# Altium footprint library SparkFun-IC-Special-Function.PCBLIB: 35 footprints (part 1 of 3)
Each footprint in its own frame and in the unit in brackets; x right, y up, seen from the top. Pads: shape width x height; smd on the part's side, far side on the other; paste and mask are expansions set on the pad; w line width, h text height; cw(c..) or ccw(c..) is an arc to the next point about the centre after c.
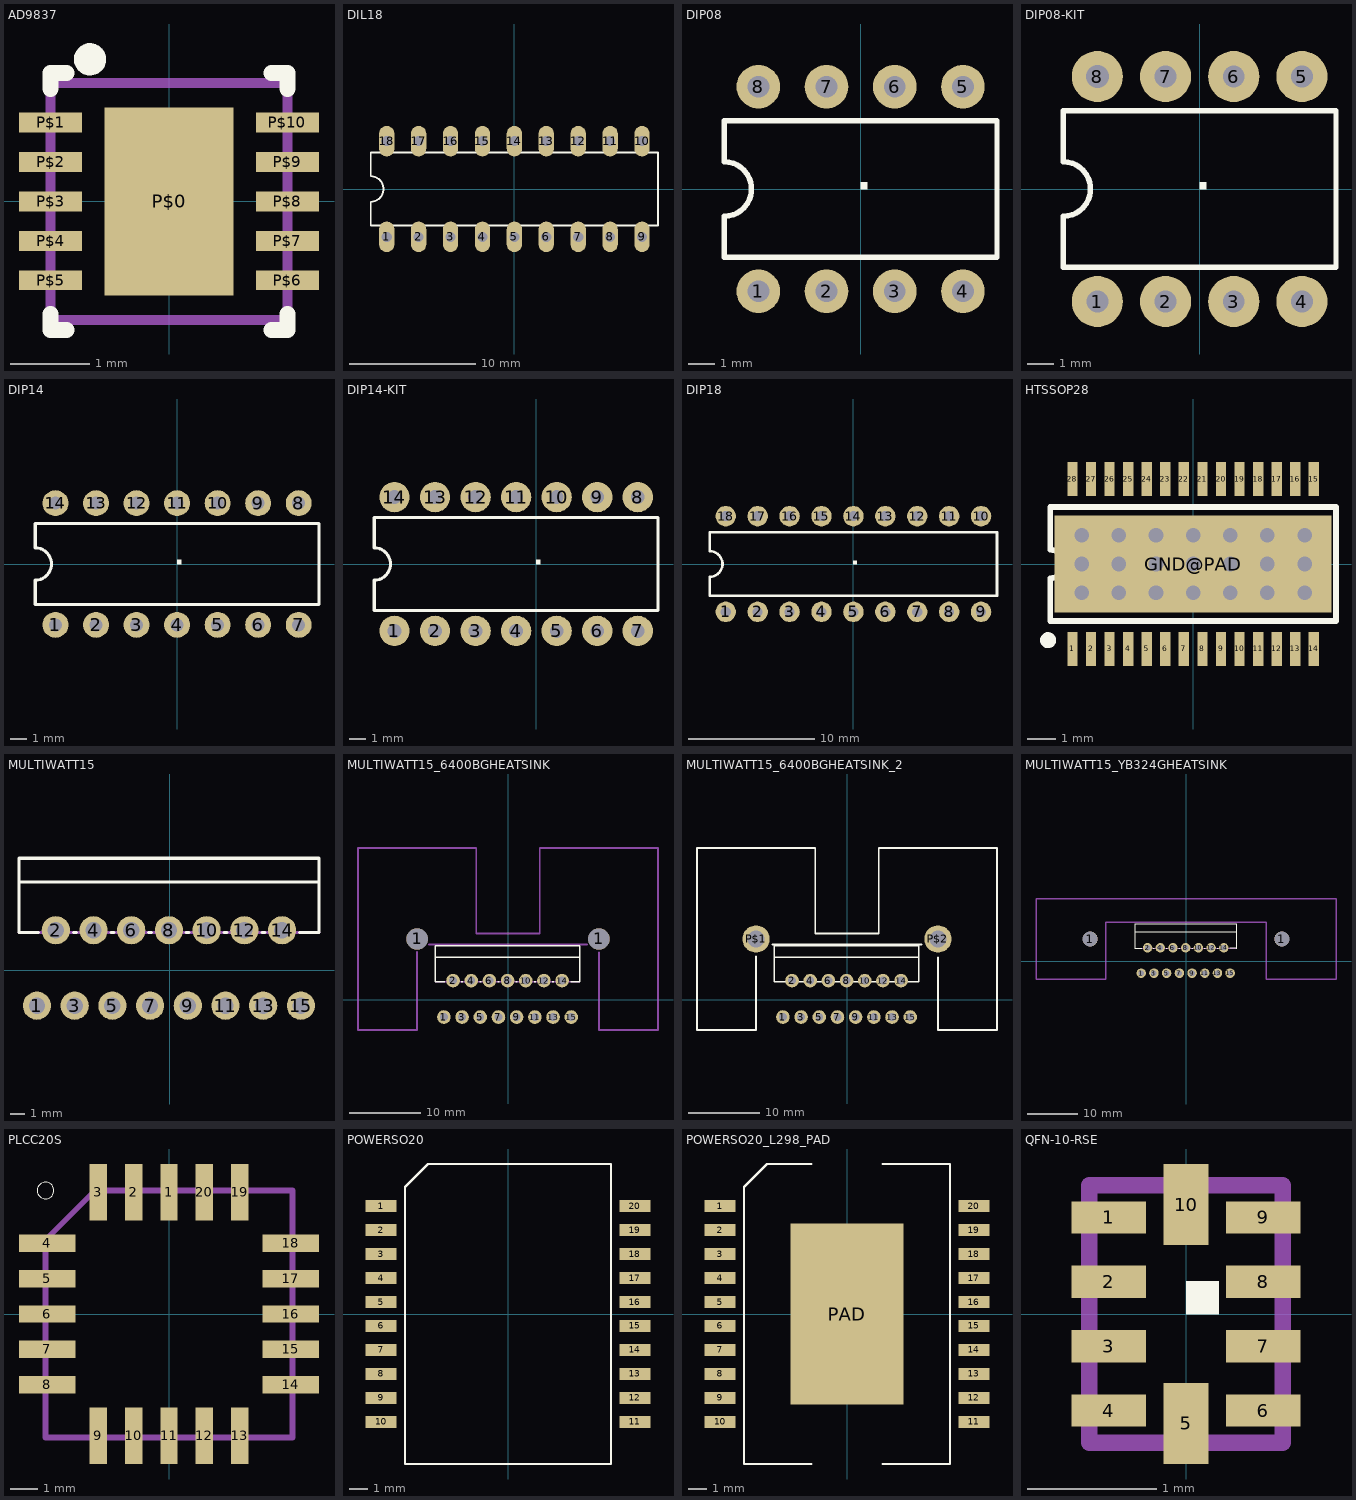
[diagram p0: the footprints below, top view; thin cyan lines are the x and y axes]

## AD9837 [mil]
pads (11):
  rect 64.57x93.7 smd: P$0(0,0)
  rect 31.5x9.84 smd: P$1(-59.06,39.37) P$2(-59.06,19.69) P$3(-59.06,0) P$4(-59.06,-19.69) P$5(-59.06,-39.37) P$6(59.06,-39.37) P$7(59.06,-19.69) P$8(59.06,0) P$9(59.06,19.69) P$10(59.06,39.37)
Top Overlay:
  circle w5: c-39.37,70.87 r5.57
  lines w5: -43.31,70.87 -35.43,70.87 ; -39.37,66.93 -39.37,74.8
  lines w8: -59.06,-56.18 -59.06,-64.06 -51.18,-64.06 ; -59.06,56.18 -59.06,64.06 -51.18,64.06 ; 51.18,-64.06 59.06,-64.06 59.06,-56.18 ; 51.18,64.06 59.06,64.06 59.06,56.18
Top Paste:
  rectangle: -15,-20 15,20
Mechanical 16:
  lines w5: -59.06,-59.06 -59.06,59.06 59.06,59.06 59.06,-59.06 -59.06,-59.06

## DIL18 [mil]
pads (18):
  oval 48x96 hole 32: 1(-400,-150) 2(-300,-150) 3(-200,-150) 4(-100,-150) 5(0,-150) 6(100,-150) 7(200,-150) 8(300,-150) 9(400,-150) 10(400,150) 11(300,150) 12(200,150) 13(100,150) 14(0,150) 15(-100,150) 16(-200,150) 17(-300,150) 18(-400,150)
Top Overlay:
  lines w6: -450,-115 450,-115 450,115 -450,115 -450,40 cw(c-450,0) -450,-40 -450,-115

## DIP08 [mil]
pads (8):
  round 64 hole 32: 1(-150,-150) 2(-50,-150) 3(50,-150) 4(150,-150) 5(150,150) 6(50,150) 7(-50,150) 8(-150,150)
Top Overlay:
  region: 0,0 10,0 10,10 0,10
  lines w8: -200,-100 200,-100 200,100 -200,100 -200,40 cw(c-200,0) -200,-40 -200,-100

## DIP08-KIT [mil]
pads (8):
  round 75 hole 32: 1(-150,-165) 2(-50,-165) 3(50,-165) 4(150,-165) 5(150,165) 6(50,165) 7(-50,165)
  round 75 hole 34: 8(-150,165)
Top Overlay:
  region: 0,0 10,0 10,10 0,10
  lines w8: -200,-115 -200,-40 ccw(c-200,0) -200,40 -200,115 200,115 200,-115 -200,-115
Top Solder:
  circle w0: c-150,165 r17
  circle w0: c-50,165 r17
  circle w0: c50,165 r17
  circle w0: c150,165 r17
  circle w0: c-150,-165 r17
  circle w0: c-50,-165 r17
  circle w0: c50,-165 r17
  circle w0: c150,-165 r17
Bottom Solder:
  circle w0: c-150,165 r42
  circle w0: c-50,165 r42
  circle w0: c50,165 r42
  circle w0: c150,165 r42
  circle w0: c-150,-165 r42
  circle w0: c-50,-165 r42
  circle w0: c50,-165 r42
  circle w0: c150,-165 r42

## DIP14 [mil]
pads (14):
  round 64 hole 32: 1(-300,-150) 2(-200,-150) 3(-100,-150) 4(0,-150) 5(100,-150) 6(200,-150) 7(300,-150) 8(300,150) 9(200,150) 10(100,150) 11(0,150) 12(-100,150) 13(-200,150) 14(-300,150)
Top Overlay:
  region: 0,0 10,0 10,10 0,10
  lines w8: -350,-100 350,-100 350,100 -350,100 -350,40 cw(c-350,0) -350,-40 -350,-100

## DIP14-KIT [mil]
pads (14):
  round 75 hole 34: 1(-350,-165) 2(-250,-165) 3(-150,-165) 4(-50,-165) 5(50,-165) 6(150,-165) 7(250,-165) 8(250,165) 9(150,165) 10(50,165) 11(-50,165) 12(-150,165) 13(-250,165) 14(-350,165)
Top Overlay:
  region: 0,0 10,0 10,10 0,10
  lines w8: -400,-115 -400,-40 ccw(c-400,0) -400,40 -400,115 300,115 300,-115 -400,-115
Top Solder:
  circle w0: c-350,165 r17
  circle w0: c-350,-165 r17
  circle w0: c-250,165 r17
  circle w0: c-250,-165 r17
  circle w0: c-150,165 r17
  circle w0: c-150,-165 r17
  circle w0: c-50,165 r17
  circle w0: c-50,-165 r17
  circle w0: c50,165 r17
  circle w0: c50,-165 r17
  circle w0: c150,165 r17
  circle w0: c150,-165 r17
  circle w0: c250,165 r17
  circle w0: c250,-165 r17
Bottom Solder:
  circle w0: c-350,165 r42
  circle w0: c-350,-165 r42
  circle w0: c-250,165 r42
  circle w0: c-250,-165 r42
  circle w0: c-150,165 r42
  circle w0: c-150,-165 r42
  circle w0: c-50,165 r42
  circle w0: c-50,-165 r42
  circle w0: c50,165 r42
  circle w0: c50,-165 r42
  circle w0: c150,165 r42
  circle w0: c150,-165 r42
  circle w0: c250,165 r42
  circle w0: c250,-165 r42

## DIP18 [mil]
pads (18):
  round 64 hole 32: 1(-400,-150) 2(-300,-150) 3(-200,-150) 4(-100,-150) 5(0,-150) 6(100,-150) 7(200,-150) 8(300,-150) 9(400,-150) 10(400,150) 11(300,150) 12(200,150) 13(100,150) 14(0,150) 15(-100,150) 16(-200,150) 17(-300,150) 18(-400,150)
Top Overlay:
  region: 0,0 10,0 10,10 0,10
  lines w8: -450,-100 450,-100 450,100 -450,100 -450,40 cw(c-450,0) -450,-40 -450,-100

## HTSSOP28 [mil]
pads (50):
  rect 14.17x46.85 smd: 1(-166.34,-116.93) 2(-140.75,-116.93) 3(-115.16,-116.93) 4(-89.57,-116.93) 5(-63.98,-116.93) 6(-38.39,-116.93) 7(-12.8,-116.93) 8(12.8,-116.93) 9(38.39,-116.93) 10(63.98,-116.93) 11(89.57,-116.93) 12(115.16,-116.93) 13(140.75,-116.93) 14(166.34,-116.93) 15(166.34,116.93) 16(140.75,116.93) 17(115.16,116.93) 18(89.57,116.93) 19(63.98,116.93) 20(38.39,116.93) 21(12.8,116.93) 22(-12.8,116.93) 23(-38.39,116.93) 24(-63.98,116.93) 25(-89.57,116.93) 26(-115.16,116.93) 27(-140.75,116.93) 28(-166.34,116.93)
  round 30 hole 20: GND@10(-153.54,39.37) GND@11(-153.54,0) GND@12(-153.54,-39.37) GND@13(-102.36,-39.37) GND@14(-102.36,0) GND@15(-102.36,39.37) GND@16(-51.18,39.37) GND@17(-51.18,0) GND@18(-51.18,-39.37) GND@19(0,-39.37) GND@20(0,0) GND@21(0,39.37) GND@22(51.18,39.37) GND@23(51.18,0) GND@24(51.18,-39.37) GND@25(102.36,-39.37) GND@26(102.36,0) GND@27(102.36,39.37) GND@28(153.54,39.37) GND@29(153.54,0) GND@30(153.54,-39.37)
  rect 381.89x133.86 smd: GND@PAD(0,0)
Top Overlay:
  circle w12: c-200,-105 r5
  lines w8: -196.85,-78.74 -196.85,-19.69 ccw(c-196.85,0) -196.85,19.69 -196.85,78.74 196.85,78.74 196.85,-78.74 -196.85,-78.74
Top Paste:
  rectangle: -98.43,-59.06 98.43,59.06
Top Solder:
  rectangle: -101.97,-61.02 101.97,61.02

## MULTIWATT15 [mil]
pads (15):
  round 74.8 hole 43.31: 1(-352.36,-94.09) 2(-302.36,105.91) 3(-252.36,-94.09) 4(-202.36,105.91) 5(-152.36,-94.09) 6(-102.36,105.91) 7(-52.36,-94.09) 8(-2.36,105.91) 9(47.64,-94.09) 10(97.64,105.91) 11(147.64,-94.09) 12(197.64,105.91) 13(247.64,-94.09) 14(297.64,105.91) 15(347.64,-94.09)
Top Overlay:
  lines w8: -400,100 -400,233.86 ; -399.61,100.39 -348.43,100.39 ; -255.91,100.39 -248.03,100.39 ; -155.51,100.39 -147.64,100.39 ; -57.09,100.39 -49.21,100.39 ; 43.31,100.39 51.18,100.39 ; 143.7,100.39 151.57,100.39 ; 244.09,100.39 251.97,100.39 ; 344.49,100.39 395.67,100.39 ; 395.28,100 395.28,233.86 ; -400,233.86 -400,296.85 395.28,296.85 395.28,233.86 ; -400,233.86 395.28,233.86
Mechanical 16:
  lines w8: -400,100 395.28,100

## MULTIWATT15_6400BGHEATSINK [mil]
pads (17):
  round 118 hole 118: 1(-500,335) 1(500,335)
  round 74.8 hole 43.31: 1(-352.36,-94.09) 2(-302.36,105.91) 3(-252.36,-94.09) 4(-202.36,105.91) 5(-152.36,-94.09) 6(-102.36,105.91) 7(-52.36,-94.09) 8(-2.36,105.91) 9(47.64,-94.09) 10(97.64,105.91) 11(147.64,-94.09) 12(197.64,105.91) 13(247.64,-94.09) 14(297.64,105.91) 15(347.64,-94.09)
Top Overlay:
  lines w8: -400,100 -400,233.86 ; -399.61,100.39 -348.43,100.39 ; -255.91,100.39 -248.03,100.39 ; -155.51,100.39 -147.64,100.39 ; -57.09,100.39 -49.21,100.39 ; 43.31,100.39 51.18,100.39 ; 143.7,100.39 151.57,100.39 ; 244.09,100.39 251.97,100.39 ; 344.49,100.39 395.67,100.39 ; 395.28,100 395.28,233.86 ; -400,233.86 -400,296.85 395.28,296.85 395.28,233.86 ; -400,233.86 395.28,233.86
Mechanical 16:
  lines w8: -400,100 395.28,100
  lines w10: -500,265 -500,-165 -825,-165 -825,835 -175,835 -175,366 175,366 175,835 825,835 825,-165 500,-165 500,260 ; -435,304 435,304

## MULTIWATT15_6400BGHEATSINK_2 [mil]
pads (17):
  round 74.8 hole 43.31: 1(-352.36,-94.09) 2(-302.36,105.91) 3(-252.36,-94.09) 4(-202.36,105.91) 5(-152.36,-94.09) 6(-102.36,105.91) 7(-52.36,-94.09) 8(-2.36,105.91) 9(47.64,-94.09) 10(97.64,105.91) 11(147.64,-94.09) 12(197.64,105.91) 13(247.64,-94.09) 14(297.64,105.91) 15(347.64,-94.09)
  round 150 hole 95: P$1(-500,335) P$2(500,335)
Top Overlay:
  lines w8: -399.61,100.39 -348.43,100.39 ; -255.91,100.39 -248.03,100.39 ; -155.51,100.39 -147.64,100.39 ; -57.09,100.39 -49.21,100.39 ; 43.31,100.39 51.18,100.39 ; 143.7,100.39 151.57,100.39 ; 244.09,100.39 251.97,100.39 ; 344.49,100.39 395.67,100.39 ; -400,233.86 -400,100 395.28,100 395.28,233.86 ; -400,233.86 -400,296.85 395.28,296.85 395.28,233.86 ; -400,233.86 395.28,233.86
  lines w10: -500,240 -500,-165 -825,-165 -825,835 -175,835 -175,366 175,366 175,835 825,835 825,-165 500,-165 500,235 ; -410,304 410,304

## MULTIWATT15_YB324GHEATSINK [mil]
pads (17):
  round 118 hole 118: 1(-754,175) 1(754,175)
  round 74.8 hole 43.31: 1(-352.36,-94.09) 2(-302.36,105.91) 3(-252.36,-94.09) 4(-202.36,105.91) 5(-152.36,-94.09) 6(-102.36,105.91) 7(-52.36,-94.09) 8(-2.36,105.91) 9(47.64,-94.09) 10(97.64,105.91) 11(147.64,-94.09) 12(197.64,105.91) 13(247.64,-94.09) 14(297.64,105.91) 15(347.64,-94.09)
Top Overlay:
  lines w8: -400,100 -400,233.86 ; -399.61,100.39 -348.43,100.39 ; -255.91,100.39 -248.03,100.39 ; -155.51,100.39 -147.64,100.39 ; -57.09,100.39 -49.21,100.39 ; 43.31,100.39 51.18,100.39 ; 143.7,100.39 151.57,100.39 ; 244.09,100.39 251.97,100.39 ; 344.49,100.39 395.67,100.39 ; 395.28,100 395.28,233.86 ; -400,233.86 -400,296.85 395.28,296.85 395.28,233.86 ; -400,233.86 395.28,233.86
Mechanical 16:
  lines w8: -400,100 395.28,100
  lines w10: -1181,-140 -630,-140 -630,305 630,305 630,-140 1181,-140 1181,490 -1181,490 -1181,-140

## PLCC20S [mil]
pads (20):
  rect 24.8x80.12 smd: 1(0,172.54) 2(-50,172.54) 3(-100,172.54) 9(-100,-172.54) 10(-50,-172.54) 11(0,-172.54) 12(50,-172.54) 13(100,-172.54) 19(100,172.54) 20(50,172.54)
  rect 80.12x24.8 smd: 4(-172.54,100) 5(-172.54,50) 6(-172.54,0) 7(-172.54,-50) 8(-172.54,-100) 14(172.54,-100) 15(172.54,-50) 16(172.54,0) 17(172.54,50) 18(172.54,100)
Top Overlay:
  circle w0: c-175,175 r11.81
Mechanical 13:
  rectangle: -10.24,194.88 10.24,212.6
  rectangle: -60.24,194.88 -39.76,212.6
  rectangle: -110.24,194.88 -89.76,212.6
  rectangle: -212.6,89.76 -194.88,110.24
  rectangle: -212.6,39.76 -194.88,60.24
  rectangle: -212.6,-10.24 -194.88,10.24
  rectangle: -212.6,-60.24 -194.88,-39.76
  rectangle: -212.6,-110.24 -194.88,-89.76
  rectangle: -110.24,-212.6 -89.76,-194.88
  rectangle: -60.24,-212.6 -39.76,-194.88
  rectangle: -10.24,-212.6 10.24,-194.88
  rectangle: 39.76,-212.6 60.24,-194.88
  rectangle: 89.76,-212.6 110.24,-194.88
  rectangle: 194.88,-110.24 212.6,-89.76
  rectangle: 194.88,-60.24 212.6,-39.76
  rectangle: 194.88,-10.24 212.6,10.24
  rectangle: 194.88,39.76 212.6,60.24
  rectangle: 194.88,89.76 212.6,110.24
  rectangle: 89.76,194.88 110.24,212.6
  rectangle: 39.76,194.88 60.24,212.6
  lines w8: -175,-175 -175,104.92 -104.92,175 175,175 175,-175 -175,-175

## POWERSO20 [mil]
pads (20):
  rect 65x25 smd: 1(-265,225) 2(-265,175) 3(-265,125) 4(-265,75) 5(-265,25) 6(-265,-25) 7(-265,-75) 8(-265,-125) 9(-265,-175) 10(-265,-225) 11(265,-225) 12(265,-175) 13(265,-125) 14(265,-75) 15(265,-25) 16(265,25) 17(265,75) 18(265,125) 19(265,175) 20(265,225)
Top Overlay:
  lines w5: -215,-313 215,-313 215,313 -167,313 -215,265 -215,-313

## POWERSO20_L298_PAD [mil]
pads (21):
  rect 65x25 smd: 1(-265,225) 2(-265,175) 3(-265,125) 4(-265,75) 5(-265,25) 6(-265,-25) 7(-265,-75) 8(-265,-125) 9(-265,-175) 10(-265,-225) 11(265,-225) 12(265,-175) 13(265,-125) 14(265,-75) 15(265,-25) 16(265,25) 17(265,75) 18(265,125) 19(265,175) 20(265,225)
  rect 236x378 smd: PAD(0,0)
Top Layer:
  region: 0,0 10,0 10,10 0,10
Top Overlay:
  lines w5: -74,-313 -215,-313 -215,265 -167,313 -74,313 ; 74,-313 215,-313 215,313 74,313
Top Paste:
  region: 0,0 10,0 10,10 0,10
  region: 0,0 10,0 10,10 0,10
  region: 0,0 10,0 10,10 0,10
  region: 0,0 10,0 10,10 0,10
Top Solder:
  region: 0,0 10,0 10,10 0,10

## QFN-10-RSE [mm]
pads (10):
  rect 0.58x0.25 smd: 1(-0.6,0.75) 2(-0.6,0.25) 3(-0.6,-0.25) 4(-0.6,-0.75) 6(0.6,-0.75) 7(0.6,-0.25) 8(0.6,0.25) 9(0.6,0.75)
  rect 0.35x0.63 smd: 5(0,-0.85) 10(0,0.85)
Top Overlay:
  region: 0,0 0.254,0 0.254,0.254 0,0.254
Mechanical 16:
  lines w0.127: -0.75,-1 0.75,-1 0.75,1 -0.75,1 -0.75,-1